# Altium schematic symbol library Traco Power.SchLib: 3 symbols
Pins are listed as number, name and electrical type; pins without a type are passive.

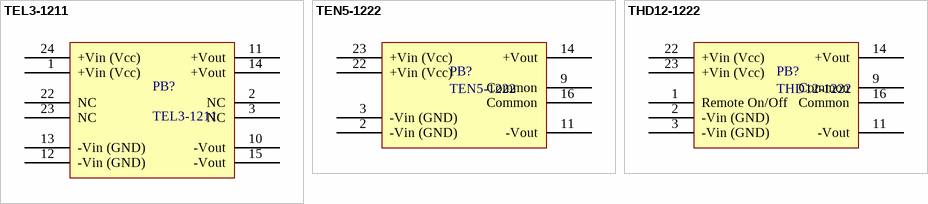
[diagram p0: symbols TEL3-1211 to THD12-1222]

## TEL3-1211
designator PB?
Value: *; Catalog number: *; Catalog: *
footprint TEL3-1211 (DC/DC)
pins: 1 +Vin (Vcc) (power), 2 NC, 3 NC, 10 -Vout (power), 11 +Vout (power), 12 -Vin (GND) (power), 13 -Vin (GND) (power), 14 +Vout (power), 15 -Vout (power), 22 NC, 23 NC, 24 +Vin (Vcc) (power)

## TEN5-1222
designator PB?
Value: *; Catalog number: *; Catalog: *
footprint TEN5-1222 (DC/DC)
pins: 2 -Vin (GND) (power), 3 -Vin (GND) (power), 9 Common (power), 11 -Vout (power), 14 +Vout (power), 16 Common (power), 22 +Vin (Vcc) (power), 23 +Vin (Vcc) (power)

## THD12-1222
designator PB?
Value: *; Catalog number: *; Catalog: *
footprint THD12-1222 (DC/DC)
pins: 1 Remote On/Off, 2 -Vin (GND) (power), 3 -Vin (GND) (power), 9 Common, 11 -Vout (power), 14 +Vout (power), 16 Common, 22 +Vin (Vcc) (power), 23 +Vin (Vcc) (power)